# Altium footprint library USB3.2_Hub_4Port.PcbLib: 34 footprints (part 3 of 3)
Each footprint in its own frame and in the unit in brackets; x right, y up, seen from the top. Pads: shape width x height; smd on the part's side, far side on the other; paste and mask are expansions set on the pad; w line width, h text height; cw(c..) or ccw(c..) is an arc to the next point about the centre after c.
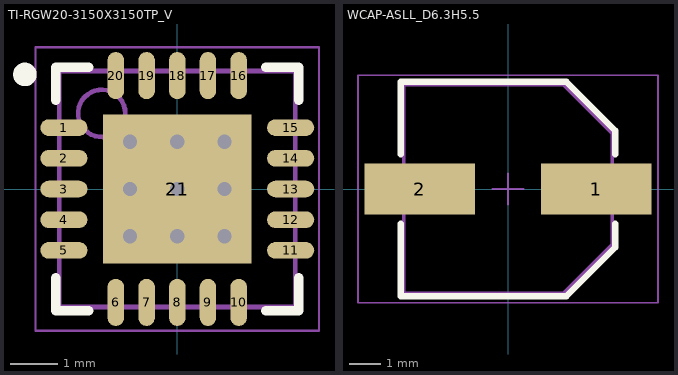
[diagram p2: the footprints below, top view; thin cyan lines are the x and y axes]

## TI-RGW20-3150X3150TP_V [mm] "QFN, 20-Leads, Body 5x5mm, Pitch 0.65mm, Thermal Pad 3.15x3.15mm"
height 1
pads (21):
  oval 1x0.35 smd: 1(-2.4,1.3) 2(-2.4,0.65) 3(-2.4,0) 4(-2.4,-0.65) 5(-2.4,-1.3) 11(2.4,-1.3) 12(2.4,-0.65) 13(2.4,0) 14(2.4,0.65) 15(2.4,1.3)
  oval 0.35x1 smd: 6(-1.3,-2.4) 7(-0.65,-2.4) 8(0,-2.4) 9(0.65,-2.4) 10(1.3,-2.4) 16(1.3,2.4) 17(0.65,2.4) 18(0,2.4) 19(-0.65,2.4) 20(-1.3,2.4)
  rect 3.15x3.15 smd: 21(0,0)
via 1,1 diameter 0.5 hole 0.3
via -1,1 diameter 0.5 hole 0.3
via 0,1 diameter 0.5 hole 0.3
via 1,0 diameter 0.5 hole 0.3
via 0,0 diameter 0.5 hole 0.3
via 1,-1 diameter 0.5 hole 0.3
via 0,-1 diameter 0.5 hole 0.3
via -1,0 diameter 0.5 hole 0.3
via -1,-1 diameter 0.5 hole 0.3
Top Overlay:
  circle w0.25: c-3.225,2.425 r0.125
  lines w0.2: -2.575,-1.875 -2.575,-2.575 -1.875,-2.575 ; -2.575,1.875 -2.575,2.575 -1.875,2.575 ; 1.875,-2.575 2.575,-2.575 2.575,-1.875 ; 1.875,2.575 2.575,2.575 2.575,1.875
Top 3D Body:
  circle w0.1: c-1.6,1.6 r0.5
  lines w0.1: -2.5,-2.5 -2.5,2.5 2.5,2.5 2.5,-2.5 -2.5,-2.5
Top Courtyard:
  lines w0.05: -3,-3 -3,3 3,3 3,-3 -3,-3
  lines w0.1: -0.5,0 0.5,0 ; 0,-0.5 0,0.5
3D body: height 1, standoff 0, extent -2.5,-2.5 2.5,2.5

## WCAP-ASLL_D6.3H5.5 [mm] "Aluminium Electrolytic V-Chip SMT Capacitors, 6.3x5.5mm"
height 5.5
pads (2):
  rect 3.5x1.6 smd: 1(2.8,0) 2(-2.8,0)
Top Overlay:
  lines w0.2: -3.4,-1.1 -3.4,-3.4 1.85,-3.4 3.4,-1.85 3.4,-1.1 ; -3.4,1.1 -3.4,3.4 1.85,3.4 3.4,1.85 3.4,1.1
Top Component Outline:
  lines w0.1: -3.3,-3.3 1.75,-3.3 3.3,-1.75 3.3,1.75 1.75,3.3 -3.3,3.3 -3.3,-3.3
Top Courtyard:
  lines w0.05: -4.75,-3.6 -4.75,3.6 4.75,3.6 4.75,-3.6 -4.75,-3.6
Top Component Center:
  lines w0.05: -0.5,0 0.5,0 ; 0,-0.5 0,0.5
Top Designator:
  text ".Designator" at -7.498,-0.5 h1.5
3D body "6.3x5.5x2.2.stp": height 5.5, standoff 0, extent -3.65,-3.3 3.65,3.3